# Altium schematic symbol library zrxlib.SchLib: 1 symbol
Pins are listed as number, name and electrical type; pins without a type are passive.

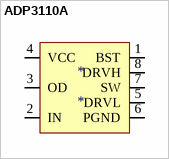
[diagram p0: symbol ADP3110A]

## ADP3110A
designator *
pins: 1 BST, 2 IN, 3 OD, 4 VCC, 5 DRVL, 6 PGND, 7 SW, 8 DRVH